# Altium schematic symbol library transistors.SchLib: 2 symbols
Pins are listed as number, name and electrical type; pins without a type are passive.

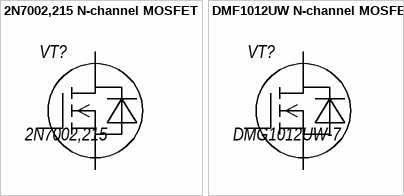
[diagram p0: symbols 2N7002,215 N-channel MOSFET to DMF1012UW N-channel MOSFET]

## 2N7002,215 N-channel MOSFET
designator VT?, comment 2N7002,215
MOSFET 2N7002,215 , N-channel, 60V, 300mA; Manufacturer: Nexperia USA Inc.; Power/Voltage: 60V, 830mW; Type: MOSFET N-channel; Operation Temperature: -65...+150; Mfg. Part Number: 2N7002,215; Help URL: https://www.digikey.com/en/products/detail/nexperia-usa-inc/2N7002-215/762973; Value: *; Tolerance: *; Note: *; Case: SOT23
footprint SOT95P230X110-3N (SOT23, 3-Leads, Body 2,90x2,30mm, Pitch 0,95mm, IPC Medium Density)
pins: 1 G (power), 2 S (power), 3 D (power)

## DMF1012UW N-channel MOSFET
designator VT?, comment DMG1012UW-7
MOSFET DMG1012UW , N-channel, 20V, 1A; Manufacturer: Diodes Incorporated; Power/Voltage: 20V, 290mW; Type: MOSFET N-channel; Operation Temperature: -55...+150; Mfg. Part Number: DMG1012UW-7; Help URL: https://www.digikey.com/en/products/detail/diodes-incorporated/DMG1012UW-7/2183239?s=N4IgTCBcDaICYFsDmBGADCsBXA7iAugL5A; Value: *; Tolerance: *; Note: *; Case: SOT323
footprint SOT65P210X110-3N (SOT23, 3-Leads, Body 2,00x2,10mm, Pitch 0,65mm, IPC Medium Density)
pins: 1 G (power), 2 S (power), 3 D (power)